# EAGLE library part DRV8830DGQR (library DRV8830DGQR)
DRV8830DGQR, Motor Driver, 1A Low Voltage Motor Driver, 2.75 to 6.8V, 10-Pin MSOP PowerPAD Source: Datasheet <http://www.ti.com/lit/ds/symlink/drv8830.pdf>
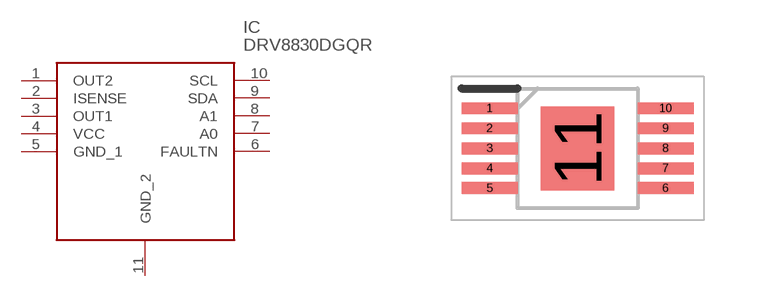
[diagram p0: symbol with the pads of SOP50P490X110-11N; footprint SOP50P490X110-11N]

Designator prefix IC

## DRV8830DGQR (Arrow_Part_Number: DRV8830DGQR; Arrow_Price-Stock: https://www.arrow.com/en/products/drv8830dgqr/texas-instruments; Description: DRV8830DGQR, Motor Driver, 1A Low Voltage Motor Driver, 2.75 to 6.8V, 10-Pin MSOP PowerPAD; Height: 1.1mm; Manufacturer_Name: Texas Instruments; Manufacturer_Part_Number: DRV8830DGQR; Mouser_Part_Number: 595-DRV8830DGQR; Mouser_Price-Stock: https://www.mouser.co.uk/ProductDetail/Texas-Instruments/DRV8830DGQR?qs=O1HRStiETCg6%2F8Csne%2FSsw%3D%3D)  [SOP50P490X110-11N]
1  OUT2
2  ISENSE
3  OUT1
4  VCC
5  GND_1
6  FAULTN
7  A0
8  A1
9  SDA
10  SCL
11  GND_2

## Footprint SOP50P490X110-11N (pad centres in mm)
DGQ (S-PDSO-G10)_1
smd 1.4 x 0.3: 1 -2.2,1; 2 -2.2,0.5; 3 -2.2,0; 4 -2.2,-0.5; 5 -2.2,-1; 6 2.2,-1; 7 2.2,-0.5; 8 2.2,0; 9 2.2,0.5; 10 2.2,1
smd 1.83 x 2.1: 11 0,0